# EAGLE library part 5749069-4 (library con-amp-te)
TE CONNECTIVITY / AMP - BUCHSE, SCSI, VERTIKAL, 40 Source: Data sheet <http://www.tycoelectronics.com/commerce/DocumentDelivery/DDEController?Action=srchrtrv&DocNm=5749069&DocType=Customer+Drawing&DocLang=English>
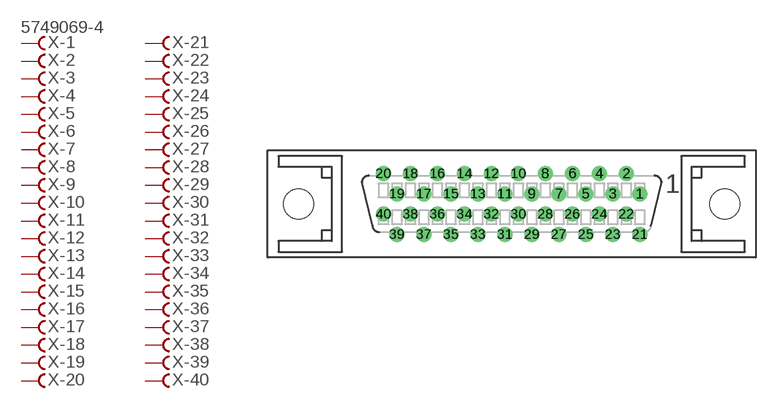
[diagram p3: symbol with the pads of 5749069-4; footprint 5749069-4]

Designator prefix X; gates -1=FV -2=F -3=F -4=F -5=F -6=F -7=F -8=F -9=F -10=F -11=F -12=F -13=F -14=F -15=F -16=F -17=F -18=F -19=F -20=F -21=F -22=F -23=F -24=F -25=F -26=F -27=F -28=F -29=F -30=F -31=F -32=F -33=F -34=F -35=F -36=F -37=F -38=F -39=F -40=F

## 5749069-4  [5749069-4]
1  -1:F  pas
2  -2:F  pas
3  -3:F  pas
4  -4:F  pas
5  -5:F  pas
6  -6:F  pas
7  -7:F  pas
8  -8:F  pas
9  -9:F  pas
10  -10:F  pas
11  -11:F  pas
12  -12:F  pas
13  -13:F  pas
14  -14:F  pas
15  -15:F  pas
16  -16:F  pas
17  -17:F  pas
18  -18:F  pas
19  -19:F  pas
20  -20:F  pas
21  -21:F  pas
22  -22:F  pas
23  -23:F  pas
24  -24:F  pas
25  -25:F  pas
26  -26:F  pas
27  -27:F  pas
28  -28:F  pas
29  -29:F  pas
30  -30:F  pas
31  -31:F  pas
32  -32:F  pas
33  -33:F  pas
34  -34:F  pas
35  -35:F  pas
36  -36:F  pas
37  -37:F  pas
38  -38:F  pas
39  -39:F  pas
40  -40:F  pas

## Footprint 5749069-4 (pad centres in mm)
TE CONNECTIVITY / AMP - BUCHSE, SCSI, VERTIKAL, 40 Source: Data sheet <http://www.tycoelectronics.com/commerce/DocumentDelivery/DDEController?Action=srchrtrv&DocNm=5749069&DocType=Customer+Drawing&DocLang=English>
drill 0.9 pad 1.27: 1 12.065,0.953; 2 10.795,2.863; 3 9.525,0.953; 4 8.255,2.863; 5 6.985,0.953; 6 5.715,2.863; 7 4.445,0.953; 8 3.175,2.863; 9 1.905,0.953; 10 0.635,2.863; 11 -0.635,0.953; 12 -1.905,2.863; 13 -3.175,0.953; 14 -4.445,2.863; 15 -5.715,0.953; 16 -6.985,2.863; 17 -8.255,0.953; 18 -9.525,2.863; 19 -10.795,0.953; 20 -12.065,2.863; 21 12.065,-2.867; 22 10.795,-0.957; 23 9.525,-2.867; 24 8.255,-0.957; 25 6.985,-2.867; 26 5.715,-0.957; 27 4.445,-2.867; 28 3.175,-0.957; 29 1.905,-2.867; 30 0.635,-0.957; 31 -0.635,-2.867; 32 -1.905,-0.957; 33 -3.175,-2.867; 34 -4.445,-0.957; 35 -5.715,-2.867; 36 -6.985,-0.957; 37 -8.255,-2.867; 38 -9.525,-0.957; 39 -10.795,-2.867; 40 -12.065,-0.957
hole 2.8 at -20.065,0
hole 2.8 at 20.065,0